# EAGLE library part EPM9560-PQ240 (library altera_SGQ)
EPM9560 MAX 9000 family
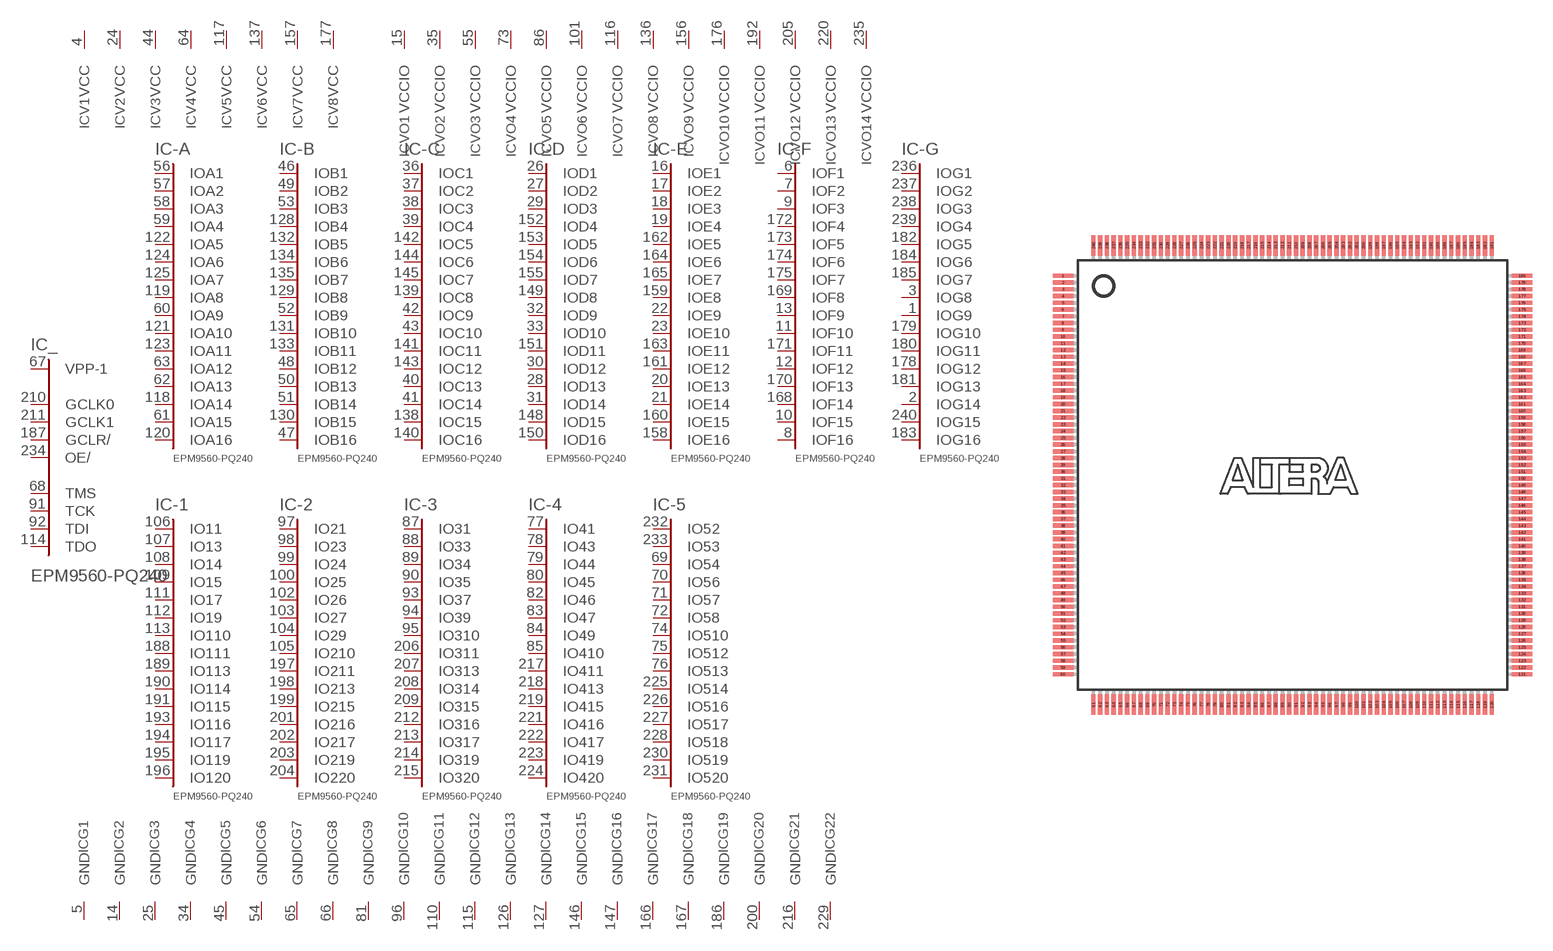
[diagram p10: symbol with the pads of PQFP240; footprint PQFP240]

Designator prefix IC; gates _=9560C356 -A=A16-0 -B=B16-0 -C=C16-0 -D=D16-0 -E=E16-0 -F=F16-0 -G=G16-0 -1=IO120-2 -2=IO220-2 -3=IO320-2 -4=IO420-2 -5=IO520-2 V1=VCCINT V2=VCCINT V3=VCCINT V4=VCCINT V5=VCCINT V6=VCCINT V7=VCCINT V8=VCCINT VO1=VCCIO VO2=VCCIO VO3=VCCIO VO4=VCCIO VO5=VCCIO VO6=VCCIO VO7=VCCIO VO8=VCCIO VO9=VCCIO VO10=VCCIO VO11=VCCIO VO12=VCCIO VO13=VCCIO VO14=VCCIO G1=GND G2=GND G3=GND G4=GND G5=GND G6=GND G7=GND G8=GND G9=GND G10=GND G11=GND G12=GND G13=GND G14=GND G15=GND G16=GND G17=GND G18=GND G19=GND G20=GND G21=GND G22=GND

## EPM9560-PQ240 (MPN: EPM9560ARC240-10; OC_FARNELL: unknown; OC_NEWARK: 51R9963)  [PQFP240]
1  -G:IOG9
2  -G:IOG14
3  -G:IOG8
4  V1:VCC  pwr
5  G1:GND  pwr
6  -F:IOF1
7  -F:IOF2
8  -F:IOF16
9  -F:IOF3
10  -F:IOF15
11  -F:IOF10
12  -F:IOF12
13  -F:IOF9
14  G2:GND  pwr
15  VO1:VCCIO  pwr
16  -E:IOE1
17  -E:IOE2
18  -E:IOE3
19  -E:IOE4
20  -E:IOE13
21  -E:IOE14
22  -E:IOE9
23  -E:IOE10
24  V2:VCC  pwr
25  G3:GND  pwr
26  -D:IOD1
27  -D:IOD2
28  -D:IOD13
29  -D:IOD3
30  -D:IOD12
31  -D:IOD14
32  -D:IOD9
33  -D:IOD10
34  G4:GND  pwr
35  VO2:VCCIO  pwr
36  -C:IOC1
37  -C:IOC2
38  -C:IOC3
39  -C:IOC4
40  -C:IOC13
41  -C:IOC14
42  -C:IOC9
43  -C:IOC10
44  V3:VCC  pwr
45  G5:GND  pwr
46  -B:IOB1
47  -B:IOB16
48  -B:IOB12
49  -B:IOB2
50  -B:IOB13
51  -B:IOB14
52  -B:IOB9
53  -B:IOB3
54  G6:GND  pwr
55  VO3:VCCIO  pwr
56  -A:IOA1
57  -A:IOA2
58  -A:IOA3
59  -A:IOA4
60  -A:IOA9
61  -A:IOA15
62  -A:IOA13
63  -A:IOA12
64  V4:VCC  pwr
65  G7:GND  pwr
66  G8:GND  pwr
67  _:VPP-1  in
68  _:TMS
69  -5:IO54
70  -5:IO56
71  -5:IO57
72  -5:IO58
73  VO4:VCCIO  pwr
74  -5:IO510
75  -5:IO512
76  -5:IO513
77  -4:IO41
78  -4:IO43
79  -4:IO44
80  -4:IO45
81  G9:GND  pwr
82  -4:IO46
83  -4:IO47
84  -4:IO49
85  -4:IO410
86  VO5:VCCIO  pwr
87  -3:IO31
88  -3:IO33
89  -3:IO34
90  -3:IO35
91  _:TCK
92  _:TDI
93  -3:IO37
94  -3:IO39
95  -3:IO310
96  G10:GND  pwr
97  -2:IO21
98  -2:IO23
99  -2:IO24
100  -2:IO25
101  VO6:VCCIO  pwr
102  -2:IO26
103  -2:IO27
104  -2:IO29
105  -2:IO210
106  -1:IO11
107  -1:IO13
108  -1:IO14
109  -1:IO15
110  G11:GND  pwr
111  -1:IO17
112  -1:IO19
113  -1:IO110
114  _:TDO
115  G12:GND  pwr
116  VO7:VCCIO  pwr
117  V5:VCC  pwr
118  -A:IOA14
119  -A:IOA8
120  -A:IOA16
121  -A:IOA10
122  -A:IOA5
123  -A:IOA11
124  -A:IOA6
125  -A:IOA7
126  G13:GND  pwr
127  G14:GND  pwr
128  -B:IOB4
129  -B:IOB8
130  -B:IOB15
131  -B:IOB10
132  -B:IOB5
133  -B:IOB11
134  -B:IOB6
135  -B:IOB7
136  VO8:VCCIO  pwr
137  V6:VCC  pwr
138  -C:IOC15
139  -C:IOC8
140  -C:IOC16
141  -C:IOC11
142  -C:IOC5
143  -C:IOC12
144  -C:IOC6
145  -C:IOC7
146  G15:GND  pwr
147  G16:GND  pwr
148  -D:IOD15
149  -D:IOD8
150  -D:IOD16
151  -D:IOD11
152  -D:IOD4
153  -D:IOD5
154  -D:IOD6
155  -D:IOD7
156  VO9:VCCIO  pwr
157  V7:VCC  pwr
158  -E:IOE16
159  -E:IOE8
160  -E:IOE15
161  -E:IOE12
162  -E:IOE5
163  -E:IOE11
164  -E:IOE6
165  -E:IOE7
166  G17:GND  pwr
167  G18:GND  pwr
168  -F:IOF14
169  -F:IOF8
170  -F:IOF13
171  -F:IOF11
172  -F:IOF4
173  -F:IOF5
174  -F:IOF6
175  -F:IOF7
176  VO10:VCCIO  pwr
177  V8:VCC  pwr
178  -G:IOG12
179  -G:IOG10
180  -G:IOG11
181  -G:IOG13
182  -G:IOG5
183  -G:IOG16
184  -G:IOG6
185  -G:IOG7
186  G19:GND  pwr
187  _:GCLR/  in
188  -1:IO111
189  -1:IO113
190  -1:IO114
191  -1:IO115
192  VO11:VCCIO  pwr
193  -1:IO116
194  -1:IO117
195  -1:IO119
196  -1:IO120
197  -2:IO211
198  -2:IO213
199  -2:IO215
200  G20:GND  pwr
201  -2:IO216
202  -2:IO217
203  -2:IO219
204  -2:IO220
205  VO12:VCCIO  pwr
206  -3:IO311
207  -3:IO313
208  -3:IO314
209  -3:IO315
210  _:GCLK0  in
211  _:GCLK1  in
212  -3:IO316
213  -3:IO317
214  -3:IO319
215  -3:IO320
216  G21:GND  pwr
217  -4:IO411
218  -4:IO413
219  -4:IO415
220  VO13:VCCIO  pwr
221  -4:IO416
222  -4:IO417
223  -4:IO419
224  -4:IO420
225  -5:IO514
226  -5:IO516
227  -5:IO517
228  -5:IO518
229  G22:GND  pwr
230  -5:IO519
231  -5:IO520
232  -5:IO52
233  -5:IO53
234  _:OE/  in
235  VO14:VCCIO  pwr
236  -G:IOG1
237  -G:IOG2
238  -G:IOG3
239  -G:IOG4
240  -G:IOG15

## Footprint PQFP240 (pad centres in mm)
Plastic Quad Flat Pack
smd 1.5 x 0.32: 1 -17,14.75; 2 -17,14.25; 3 -17,13.75; 4 -17,13.25; 5 -17,12.75; 6 -17,12.25; 7 -17,11.75; 8 -17,11.25; 9 -17,10.75; 10 -17,10.25; 11 -17,9.75; 12 -17,9.25; 13 -17,8.75; 14 -17,8.25; 15 -17,7.75; 16 -17,7.25; 17 -17,6.75; 18 -17,6.25; 19 -17,5.75; 20 -17,5.25; 21 -17,4.75; 22 -17,4.25; 23 -17,3.75; 24 -17,3.25; 25 -17,2.75; 26 -17,2.25; 27 -17,1.75; 28 -17,1.25; 29 -17,0.75; 30 -17,0.25; 31 -17,-0.25; 32 -17,-0.75; 33 -17,-1.25; 34 -17,-1.75; 35 -17,-2.25; 36 -17,-2.75; 37 -17,-3.25; 38 -17,-3.75; 39 -17,-4.25; 40 -17,-4.75; 41 -17,-5.25; 42 -17,-5.75; 43 -17,-6.25; 44 -17,-6.75; 45 -17,-7.25; 46 -17,-7.75; 47 -17,-8.25; 48 -17,-8.75; 49 -17,-9.25; 50 -17,-9.75; 51 -17,-10.25; 52 -17,-10.75; 53 -17,-11.25; 54 -17,-11.75; 55 -17,-12.25; 56 -17,-12.75; 57 -17,-13.25; 58 -17,-13.75; 59 -17,-14.25; 60 -17,-14.75; 121 17,-14.75; 122 17,-14.25; 123 17,-13.75; 124 17,-13.25; 125 17,-12.75; 126 17,-12.25; 127 17,-11.75; 128 17,-11.25; 129 17,-10.75; 130 17,-10.25; 131 17,-9.75; 132 17,-9.25; 133 17,-8.75; 134 17,-8.25; 135 17,-7.75; 136 17,-7.25; 137 17,-6.75; 138 17,-6.25; 139 17,-5.75; 140 17,-5.25; 141 17,-4.75; 142 17,-4.25; 143 17,-3.75; 144 17,-3.25; 145 17,-2.75; 146 17,-2.25; 147 17,-1.75; 148 17,-1.25; 149 17,-0.75; 150 17,-0.25; 151 17,0.25; 152 17,0.75; 153 17,1.25; 154 17,1.75; 155 17,2.25; 156 17,2.75; 157 17,3.25; 158 17,3.75; 159 17,4.25; 160 17,4.75; 161 17,5.25; 162 17,5.75; 163 17,6.25; 164 17,6.75; 165 17,7.25; 166 17,7.75; 167 17,8.25; 168 17,8.75; 169 17,9.25; 170 17,9.75; 171 17,10.25; 172 17,10.75; 173 17,11.25; 174 17,11.75; 175 17,12.25; 176 17,12.75; 177 17,13.25; 178 17,13.75; 179 17,14.25; 180 17,14.75
smd 0.32 x 1.5: 61 -14.75,-17; 62 -14.25,-17; 63 -13.75,-17; 64 -13.25,-17; 65 -12.75,-17; 66 -12.25,-17; 67 -11.75,-17; 68 -11.25,-17; 69 -10.75,-17; 70 -10.25,-17; 71 -9.75,-17; 72 -9.25,-17; 73 -8.75,-17; 74 -8.25,-17; 75 -7.75,-17; 76 -7.25,-17; 77 -6.75,-17; 78 -6.25,-17; 79 -5.75,-17; 80 -5.25,-17; 81 -4.75,-17; 82 -4.25,-17; 83 -3.75,-17; 84 -3.25,-17; 85 -2.75,-17; 86 -2.25,-17; 87 -1.75,-17; 88 -1.25,-17; 89 -0.75,-17; 90 -0.25,-17; 91 0.25,-17; 92 0.75,-17; 93 1.25,-17; 94 1.75,-17; 95 2.25,-17; 96 2.75,-17; 97 3.25,-17; 98 3.75,-17; 99 4.25,-17; 100 4.75,-17; 101 5.25,-17; 102 5.75,-17; 103 6.25,-17; 104 6.75,-17; 105 7.25,-17; 106 7.75,-17; 107 8.25,-17; 108 8.75,-17; 109 9.25,-17; 110 9.75,-17; 111 10.25,-17; 112 10.75,-17; 113 11.25,-17; 114 11.75,-17; 115 12.25,-17; 116 12.75,-17; 117 13.25,-17; 118 13.75,-17; 119 14.25,-17; 120 14.75,-17; 181 14.75,17; 182 14.25,17; 183 13.75,17; 184 13.25,17; 185 12.75,17; 186 12.25,17; 187 11.75,17; 188 11.25,17; 189 10.75,17; 190 10.25,17; 191 9.75,17; 192 9.25,17; 193 8.75,17; 194 8.25,17; 195 7.75,17; 196 7.25,17; 197 6.75,17; 198 6.25,17; 199 5.75,17; 200 5.25,17; 201 4.75,17; 202 4.25,17; 203 3.75,17; 204 3.25,17; 205 2.75,17; 206 2.25,17; 207 1.75,17; 208 1.25,17; 209 0.75,17; 210 0.25,17; 211 -0.25,17; 212 -0.75,17; 213 -1.25,17; 214 -1.75,17; 215 -2.25,17; 216 -2.75,17; 217 -3.25,17; 218 -3.75,17; 219 -4.25,17; 220 -4.75,17; 221 -5.25,17; 222 -5.75,17; 223 -6.25,17; 224 -6.75,17; 225 -7.25,17; 226 -7.75,17; 227 -8.25,17; 228 -8.75,17; 229 -9.25,17; 230 -9.75,17; 231 -10.25,17; 232 -10.75,17; 233 -11.25,17; 234 -11.75,17; 235 -12.25,17; 236 -12.75,17; 237 -13.25,17; 238 -13.75,17; 239 -14.25,17; 240 -14.75,17